# EAGLE library part DRV-LM5104 (library eagleLib v2)
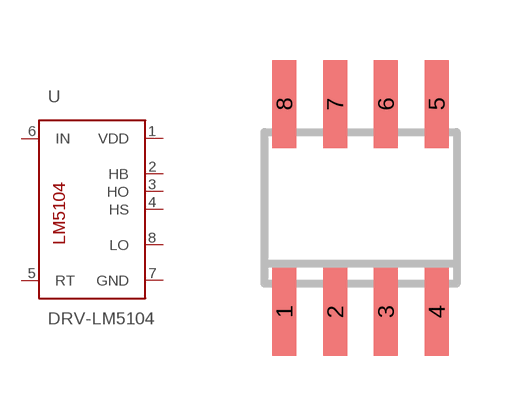
[diagram p66: symbol with the pads of SO08; footprint SO08]

Designator prefix -

## DRV-LM5104  [SO08]
1  VDD
2  HB
3  HO
4  HS
5  RT
6  IN
7  GND
8  LO

## Footprint SO08 (pad centres in mm)
SMALL OUTLINE INTEGRATED CIRCUIT body 3.9 mm/JEDEC MS-012AA
smd 0.6 x 2.2: 1 -1.905,-2.6; 2 -0.635,-2.6; 3 0.635,-2.6; 4 1.905,-2.6; 5 1.905,2.6; 6 0.635,2.6; 7 -0.635,2.6; 8 -1.905,2.6